# EAGLE library part TS5A3160DBVR (library BitLab)
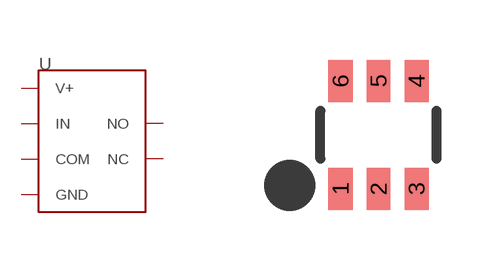
[diagram p1: symbol with the pads of SOT23-6; footprint SOT23-6]

Designator prefix U

## TS5A3160DBVR  [SOT23-6]
1  NO
2  GND
3  NC
4  COM
5  V+
6  IN

## Footprint SOT23-6 (pad centres in mm)
smd 0.6 x 1.05: 1 -0.95,-1.35; 2 0,-1.35; 3 0.95,-1.35; 4 0.95,1.35; 5 0,1.35; 6 -0.95,1.35